# EAGLE library part TPA2005D1 (library SparkFun-IC-Amplifiers)
1.4W MONO CLASS-D AUDIO POWER AMPLIFIER The TPA2005D1 is a 1.4-W high efficiency filter-free class-D audio power amplifier in a BGA, QFN, or MSOP package that requires only three external components. Datasheet: http://focus.ti.com/lit/ds/symlink/tpa2005d1.pdf 1.4 W Into 8 ? From a 5V Supply at THD = 10% (Typ) Maximum Battery Life and Minimum Heat Efficiency With an 8-? Speaker: 84% at 400 mW, 79% at 100 mW 2.8-mA Quiescent Current 0.5-mA Shutdown Current Ideal for Wireless or Cellular Handsets and PDAs Capable of Driving an 8-? Speaker (2.5 V ? VDD ? 5.5 V) and a 4-? Speaker (2.5 V ? VDD ? 4.2 V) Only Three External Components Optimized PWM Output Stage Eliminates LC Output Filter Internally Generated 250-kHz Switching Frequency Eliminates Capacitor and Resistor Improved PSRR (-71 dB at 217 Hz) and Wide Supply Voltage (2.5 V to 5.5 V) Eliminates Need for a Voltage Regulator Fully Differential Design Reduces RF Rectification and Eliminates Bypass Capacitor Improved CMRR Eliminates Two Input Coupling Capacitors SparkFun Products SparkFun Mono Audio Amp Breakout - TPA2005D1 <https://www.sparkfun.com/products/11044> (BOB-11044) Note: SparkFun currenly only uses the QFN style part
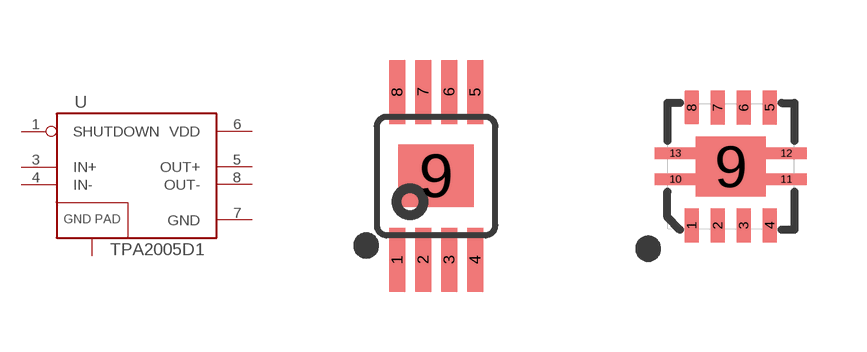
[diagram p9: symbol with the pads of POWER-SOP8; footprints POWER-SOP8, QFN-8_PAD]

Designator prefix U

## TPA2005D1DGN (PROD_ID: NA-XXXXX; VALUE: TPA2005D1)  [POWER-SOP8]
1  SHUTDOWN  in
3  IN+
4  IN-
5  OUT+
6  VDD  pwr
7  GND  pwr
8  OUT-
9  GND  pwr

## TPA2005D1DRB (PROD_ID: IC-10975; VALUE: TPA2005D1)  [QFN-8_PAD]
1  SHUTDOWN  in
3  IN+
4  IN-
5  OUT+
6  VDD  pwr
7  GND  pwr
8  OUT-
9  GND  pwr
10  GND  pwr
11  GND  pwr
12  GND  pwr
13  GND  pwr

## Footprint POWER-SOP8 (pad centres in mm)
8M, 8-Lead, 0.118" Wide, Miniature Small Outline Package MSOP 8M-Package doc1097.pdf
smd 0.4 x 1.6: 1 -0.975,-2.1; 2 -0.325,-2.1; 3 0.325,-2.1; 4 0.975,-2.1; 5 0.975,2.1; 6 0.325,2.1; 7 -0.325,2.1; 8 -0.975,2.1
smd 1.89 x 1.57: 9 0,0

## Footprint QFN-8_PAD (pad centres in mm)
smd 0.35 x 0.85: 1 -0.975,-1.475; 2 -0.325,-1.475; 3 0.325,-1.475; 4 0.975,-1.475; 5 0.975,1.475; 6 0.325,1.475; 7 -0.325,1.475; 8 -0.975,1.475
smd 1.75 x 1.5: 9 0,0
smd 1.025 x 0.28: 10 -1.387,-0.325; 11 1.387,-0.325; 12 1.387,0.325; 13 -1.387,0.325